# Altium footprint library G510-Q50-00.PcbLib: 1 footprints
Each footprint in its own frame and in the unit in brackets; x right, y up, seen from the top. Pads: shape width x height; smd on the part's side, far side on the other; paste and mask are expansions set on the pad; w line width, h text height; cw(c..) or ccw(c..) is an arc to the next point about the centre after c.
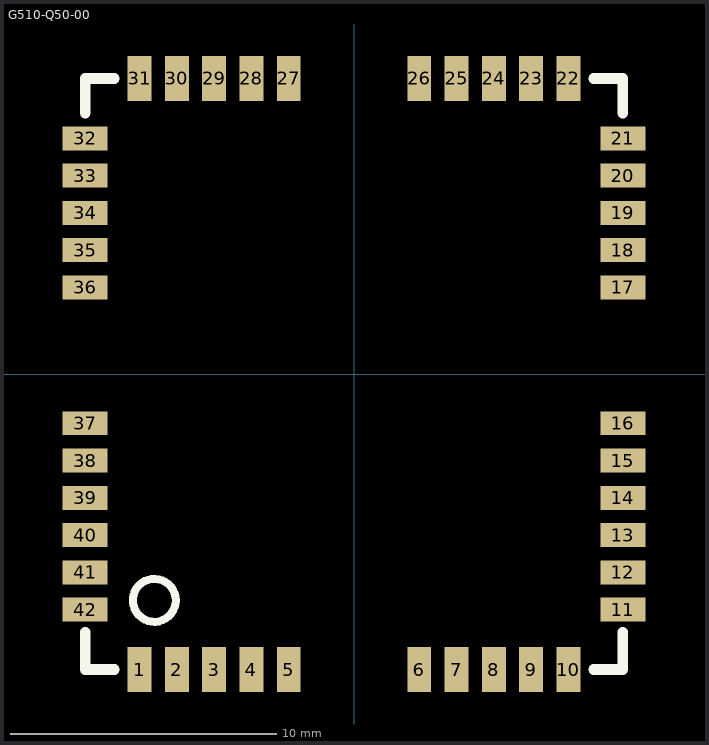
[diagram p0: the footprint, top view; thin cyan lines are the x and y axes]

## G510-Q50-00 [mm]
pads (42):
  rect 0.9x1.7 smd: 1(-8.05,-11.1) 2(-6.65,-11.1) 3(-5.25,-11.1) 4(-3.85,-11.1) 5(-2.45,-11.1) 6(2.45,-11.1) 7(3.85,-11.1) 8(5.25,-11.1) 9(6.65,-11.1) 10(8.05,-11.1) 22(8.05,11.1) 23(6.65,11.1) 24(5.25,11.1) 25(3.85,11.1) 26(2.45,11.1) 27(-2.45,11.1) 28(-3.85,11.1) 29(-5.25,11.1) 30(-6.65,11.1) 31(-8.05,11.1)
  rect 1.7x0.9 smd: 11(10.1,-8.85) 12(10.1,-7.45) 13(10.1,-6.05) 14(10.1,-4.65) 15(10.1,-3.25) 16(10.1,-1.85) 17(10.1,3.25) 18(10.1,4.65) 19(10.1,6.05) 20(10.1,7.45) 21(10.1,8.85) 32(-10.1,8.85) 33(-10.1,7.45) 34(-10.1,6.05) 35(-10.1,4.65) 36(-10.1,3.25) 37(-10.1,-1.85) 38(-10.1,-3.25) 39(-10.1,-4.65) 40(-10.1,-6.05) 41(-10.1,-7.45) 42(-10.1,-8.85)
Top Overlay:
  circle w0.3: c-7.5,-8.5 r0.806
  lines w0.4: -10.1,-9.7 -10.1,-11.1 -9,-11.1 ; -10.1,9.8 -10.1,11.1 -9,11.1 ; 9,-11.1 10.1,-11.1 10.1,-9.7 ; 9,11.1 10.1,11.1 10.1,9.8
3D body: height 2.5, standoff 0, extent -9.5,-10.5 9.5,10.5
3D body: height 0.8, standoff 0, extent -10.1,-11.1 10.1,11.1